# Altium footprint library RPSLib_ElectroMechanical.PcbLib: 54 footprints (part 1 of 4)
Each footprint in its own frame and in the unit in brackets; x right, y up, seen from the top. Pads: shape width x height; smd on the part's side, far side on the other; paste and mask are expansions set on the pad; w line width, h text height; cw(c..) or ccw(c..) is an arc to the next point about the centre after c.
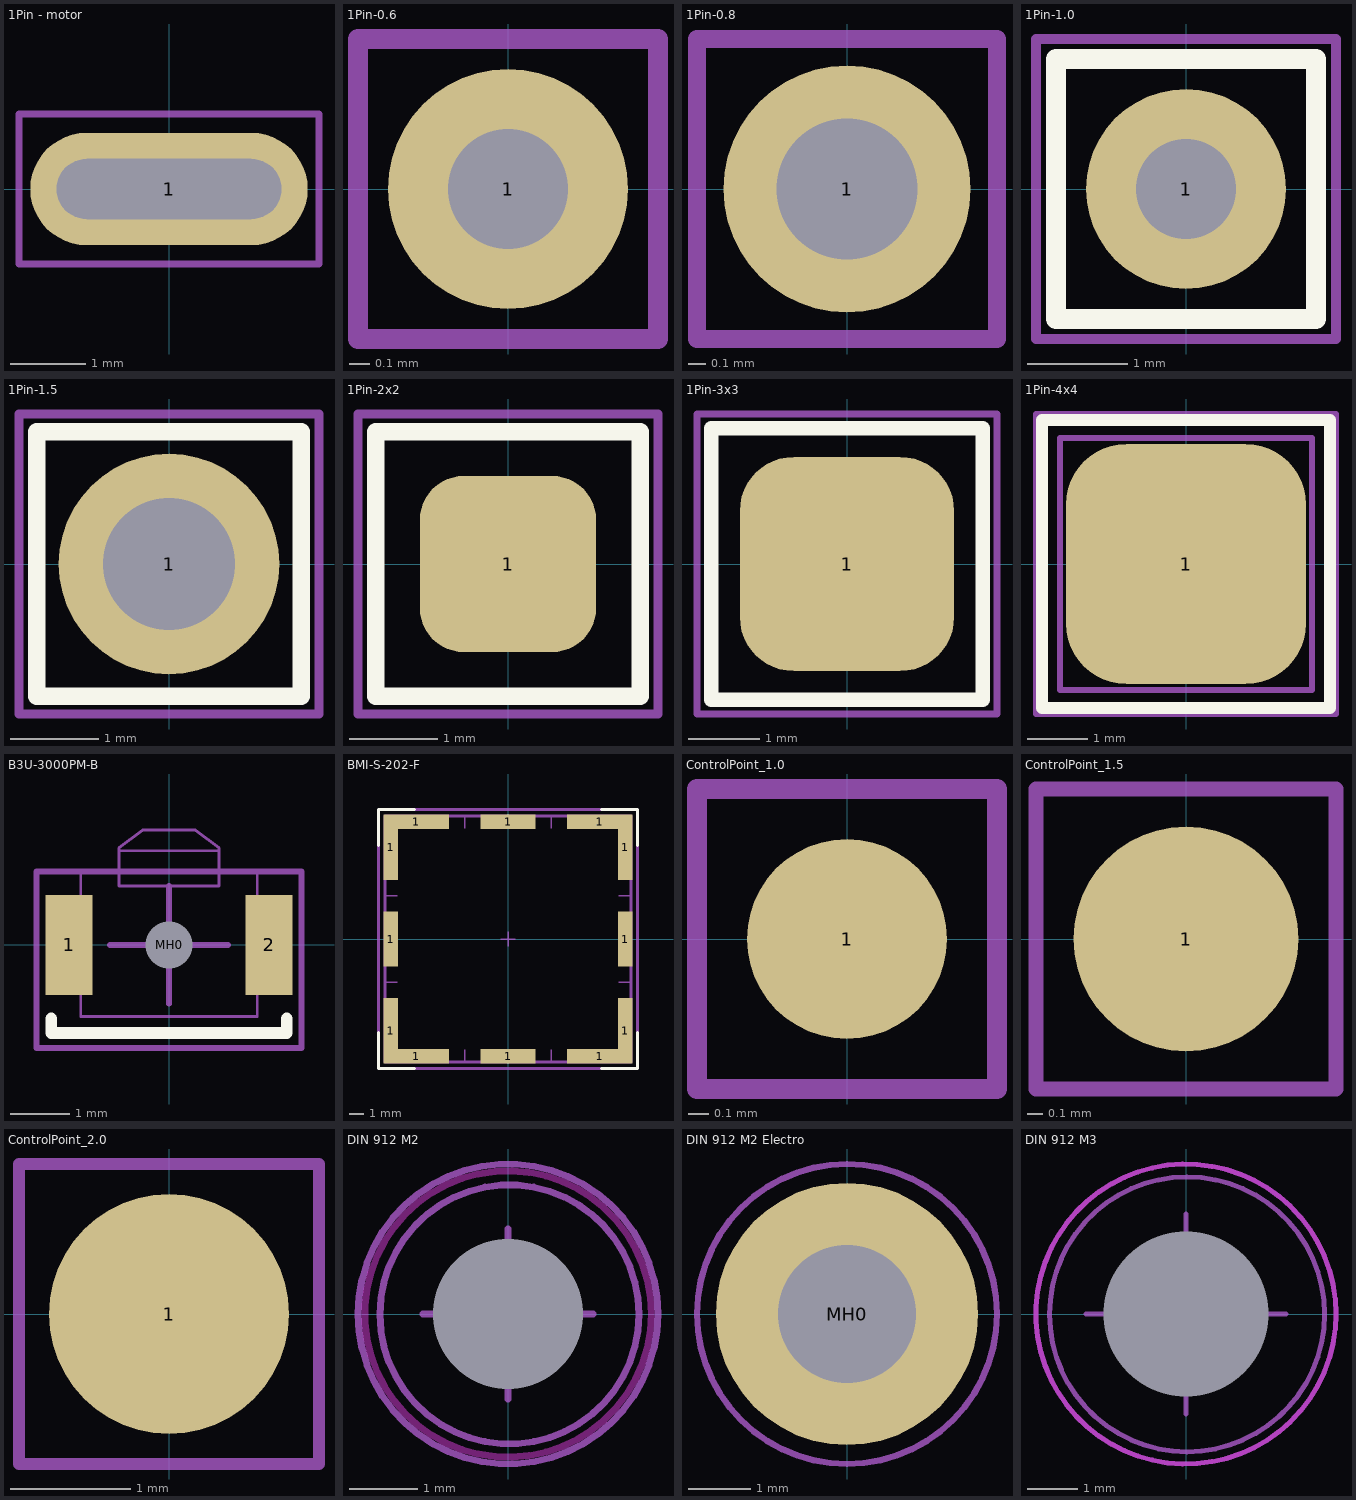
[diagram p0: the footprints below, top view; thin cyan lines are the x and y axes]

## 1Pin - motor [mm]
pads (1):
  oval 3.7x1.5 hole 0.8 slot 3 at 0 deg: 1(0,0)
Mechanical 15:
  lines w0.1: -2,-1 2,-1 2,1 -2,1 -2,-1

## 1Pin-0.6 [mm] "Throw hole solder point d0.6x1.2"
pads (1):
  round 1.2 hole 0.6: 1(0,0)
Mechanical 1:
  lines w0.1: -0.75,-0.75 0.75,-0.75 0.75,0.75 -0.75,0.75 -0.75,-0.75
  text ".Designator" at -1.126,-0.113 h0.5
Mechanical 15:
  lines w0.1: -0.5,0 0.5,0 ; 0,-0.5 0,0.5 ; -0.75,-0.75 0.75,-0.75 0.75,0.75 -0.75,0.75 -0.75,-0.75

## 1Pin-0.8 [mm] "Throw hole solder point d0.8x1.4"
pads (1):
  round 1.4 hole 0.8: 1(0,0)
Mechanical 1:
  lines w0.1: -0.85,-0.85 -0.85,0.85 0.85,0.85 0.85,-0.85 -0.85,-0.85
  text ".Designator" at -1.126,-0.113 h0.5
Mechanical 15:
  lines w0.1: -0.5,0 0.5,0 ; 0,-0.5 0,0.5 ; -0.85,-0.85 -0.85,0.85 0.85,0.85 0.85,-0.85 -0.85,-0.85

## 1Pin-1.0 [mm] "Throw hole solder point d1.0x2.0"
pads (1):
  round 2 hole 1: 1(0,0)
Top Overlay:
  lines w0.2: -1.3,-1.3 -1.3,1.3 1.3,1.3 1.3,-1.3 -1.3,-1.3
Mechanical 1:
  lines w0.1: -1.3,-1.3 1.3,-1.3 1.3,1.3 -1.3,1.3 -1.3,-1.3
  text ".Designator" at -1.126,-0.113 h0.5
Mechanical 15:
  lines w0.1: -0.5,0 0.5,0 ; 0,-0.5 0,0.5 ; -1.5,-1.5 1.5,-1.5 1.5,1.5 -1.5,1.5 -1.5,-1.5

## 1Pin-1.5 [mm] "Throw hole solder point d1.5x2.5"
pads (1):
  round 2.5 hole 1.5: 1(0,0)
Top Overlay:
  lines w0.2: -1.5,-1.5 -1.5,1.5 1.5,1.5 1.5,-1.5 -1.5,-1.5
Mechanical 1:
  lines w0.1: -1.5,-1.5 1.5,-1.5 1.5,1.5 -1.5,1.5 -1.5,-1.5
  text ".Designator" at -1.126,-0.113 h0.5
Mechanical 15:
  lines w0.1: -0.5,0 0.5,0 ; 0,-0.5 0,0.5 ; -1.7,-1.7 1.7,-1.7 1.7,1.7 -1.7,1.7 -1.7,-1.7

## 1Pin-2x2 [mm] "SMD solder point 2x2 mm"
height 0.2
pads (1):
  rrect50% 2x2 smd: 1(0,0)
Top Overlay:
  lines w0.2: -1.5,-1.5 1.5,-1.5 1.5,1.5 -1.5,1.5 -1.5,-1.5
Mechanical 1:
  lines w0.1: -1.5,-1.5 -1.5,1.5 1.5,1.5 1.5,-1.5 -1.5,-1.5
  text ".Designator" at -1.126,-0.113 h0.5
Mechanical 15:
  lines w0.1: -0.5,0 0.5,0 ; 0,-0.5 0,0.5 ; -1.7,-1.7 -1.7,1.7 1.7,1.7 1.7,-1.7 -1.7,-1.7

## 1Pin-3x3 [mm] "SMD solder point 3x3 mm"
height 0.2
pads (1):
  rrect50% 3x3 smd: 1(0,0)
Top Overlay:
  lines w0.2: -1.9,-1.9 1.9,-1.9 1.9,1.9 -1.9,1.9 -1.9,-1.9
Mechanical 1:
  lines w0.1: -1.9,-1.9 -1.9,1.9 1.9,1.9 1.9,-1.9 -1.9,-1.9
  text ".Designator" at -1.126,-0.113 h0.5
Mechanical 15:
  lines w0.1: -0.5,0 0.5,0 ; 0,-0.5 0,0.5 ; -2.1,-2.1 -2.1,2.1 2.1,2.1 2.1,-2.1 -2.1,-2.1

## 1Pin-4x4 [mm] "SMD solder point 4x4 mm"
height 0.2
pads (1):
  rrect50% 4x4 smd: 1(0,0)
Top Overlay:
  lines w0.2: -2.4,-2.4 2.4,-2.4 2.4,2.4 -2.4,2.4 -2.4,-2.4
Mechanical 1:
  lines w0.1: -2.1,-2.1 -2.1,2.1 2.1,2.1 2.1,-2.1 -2.1,-2.1
  text ".Designator" at -1.126,-0.113 h0.5
Mechanical 15:
  lines w0.1: -0.5,0 0.5,0 ; 0,-0.5 0,0.5 ; -2.5,-2.5 -2.5,2.5 2.5,2.5 2.5,-2.5 -2.5,-2.5

## B3U-3000PM-B [mm]
height 1.2
pads (3):
  rect 0.8x1.7 smd mask+0.07: 1(-1.7,0) 2(1.7,0)
  round 0.5 hole 0.8 unplated mask+0.07: MH0(0,0)
Top Overlay:
  lines w0.2: -2,-1.25 -2,-1.5 2,-1.5 2,-1.25
Mechanical 13:
  lines w0.05: -1.5,-0.7 -2,-0.7 -2,0.7 -1.5,0.7 ; -0.85,1.22 -0.92,1.22 -1.5,1.22 -1.5,-1.22 1.5,-1.22 1.5,1.22 0.92,1.22 0.85,1.22 ; 1.5,-0.7 2,-0.7 2,0.7 1.5,0.7 ; -0.85,1.6 -0.85,1 0.85,1 0.85,1.6 ; -0.85,1.6 -0.85,1.65 -0.45,1.95 0.45,1.95 0.85,1.65 0.85,1.6 ; -0.85,1.6 0.85,1.6
Mechanical 15:
  lines w0.1: -1,0 1,0 ; 0,-1 0,1 ; -2.25,-1.75 -2.25,1.25 2.25,1.25 2.25,-1.75 -2.25,-1.75
3D body "B3U_3000P[]_B.step": height 1.2, standoff -0.5, extent -2,-1.25 2,1.95

## BMI-S-202-F [mm] "EMI Shield"
height 3.6
pads (12):
  rect 1x4.55 smd paste-0.07 mask+0.07: 1(-8.15,-6.375) 1(-8.15,6.375) 1(8.15,-6.375) 1(8.15,6.375)
  rect 1x3.8 smd paste-0.07 mask+0.07: 1(-8.15,0) 1(8.15,0)
  rect 4.55x1 smd paste-0.07 mask+0.07: 1(-6.375,-8.15) 1(-6.375,8.15) 1(6.375,-8.15) 1(6.375,8.15)
  rect 3.8x1 smd paste-0.07 mask+0.07: 1(0,-8.15) 1(0,8.15)
Top Overlay:
  lines w0.2: -9,-6.5 -9,-9 -6.5,-9 ; -9,6.5 -9,9 -6.5,9 ; 6.5,-9 9,-9 9,-6.5 ; 6.5,9 9,9 9,6.5
Mechanical 1:
  lines w0.2: -9,-9 9,-9 9,9 -9,9 -9,-9
  text ".Designator" at -8.503,7.774 h1
Mechanical 13:
  lines w0.1: -8.549,-3 -7.7,-3 ; -8.549,3 -7.7,3 ; -3,-8.549 -3,-7.7 ; -3,7.7 -3,8.55 ; 3,-8.549 3,-7.7 ; 3,7.7 3,8.55 ; 7.7,-3 8.55,-3 ; 7.7,3 8.55,3
  lines w0.2: -8.549,-8.549 -8.549,8.55 8.55,8.55 8.55,-8.549 -8.549,-8.549
Mechanical 15:
  lines w0.1: -0.5,0 0.5,0 ; 0,-0.5 0,0.5
3D body "Laird-BMI-S-202-F.stp": height 3.6, standoff 0, extent -8.549,-8.549 8.55,8.55

## ControlPoint_1.0 [mm] "Контрольная точка d 1.0"
height 0.2
pads (1):
  round 1 smd mask+0.2: 1(0,0)
Mechanical 15:
  lines w0.1: -0.75,-0.75 -0.75,0.75 0.75,0.75 0.75,-0.75 -0.75,-0.75

## ControlPoint_1.5 [mm] "Контрольная точка d 1.5"
height 0.2
pads (1):
  round 1.5 smd mask+0.2: 1(0,0)
Mechanical 15:
  lines w0.1: -1,-1 1,-1 1,1 -1,1 -1,-1

## ControlPoint_2.0 [mm] "Контрольная точка d 2.0"
height 0.2
pads (1):
  round 2 smd mask+0.2: 1(0,0)
Mechanical 15:
  lines w0.1: -1.25,-1.25 -1.25,1.25 1.25,1.25 1.25,-1.25 -1.25,-1.25

## DIN 912 M2 [mm] "Винт DIN 912 цилиндрическая головка внутренний шестигранник M2"
height 2
pads (1):
  round 0 hole 2.2 unplated mask+0.07: MH0(0,0)
Keep-Out Layer:
  circle w0.1: c0,0 r2.1
Mechanical 13:
  circle w0.1: c0.021,-0.006 r1.9
Mechanical 15:
  circle w0.1: c0,0 r2.2
  lines w0.1: -1.25,0 1.25,0 ; 0,-1.25 0,1.25

## DIN 912 M2 Electro [mm] "Винт DIN 912 цилиндрическая головка внутренний шестигранник M2"
height 2
pads (1):
  round 4.2 hole 2.2 mask+0.07: MH0(0,0)
Mechanical 13:
  circle w0.1: c0.021,-0.006 r1.9
Mechanical 15:
  circle w0.1: c0,0 r2.4
  lines w0.1: -1.25,0 1.25,0 ; 0,-1.25 0,1.25

## DIN 912 M3 [mm] "Винт DIN 912 цилиндрическая головка внутренний шестигранник M3"
height 2
pads (1):
  round 0 hole 3.3 unplated mask+0.07: MH0(0,0)
Keep-Out Layer:
  circle w0.1: c0,0 r3
Mechanical 13:
  circle w0.1: c0.021,-0.006 r2.75
Mechanical 15:
  circle w0.1: c0,0 r3
  lines w0.1: -2,0 2,0 ; 0,-2 0,2